# EAGLE library part POWER_CONNECTOR (library Mylib)
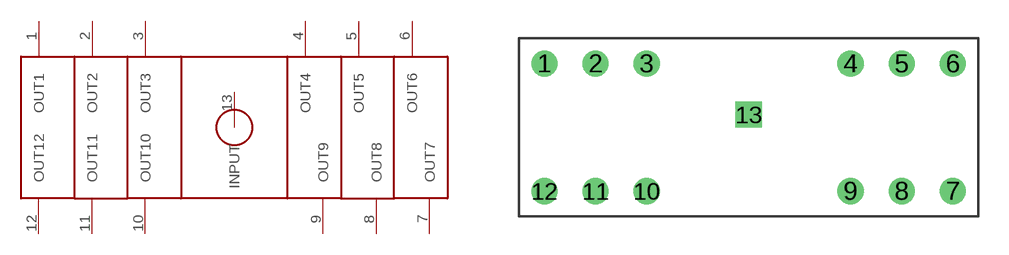
[diagram p6: symbol with the pads of POWER_CONNECTOR; footprint POWER_CONNECTOR]

Designator prefix -

## POWER_CONNECTOR  [POWER_CONNECTOR]
1  OUT1
2  OUT2
3  OUT3
4  OUT4
5  OUT5
6  OUT6
7  OUT7
8  OUT8
9  OUT9
10  OUT10
11  OUT11
12  OUT12
13  INPUT

## Footprint POWER_CONNECTOR (pad centres in mm)
drill 0.8: 1 -10.16,2.54; 2 -7.62,2.54; 3 -5.08,2.54; 4 5.08,2.54; 5 7.62,2.54; 6 10.16,2.54; 7 10.16,-3.81; 8 7.62,-3.81; 9 5.08,-3.81; 10 -5.08,-3.81; 11 -7.62,-3.81; 12 -10.16,-3.81
drill 0.8 square: 13 0,0